# EAGLE library part ATMEGA328SMD (library 1dah)
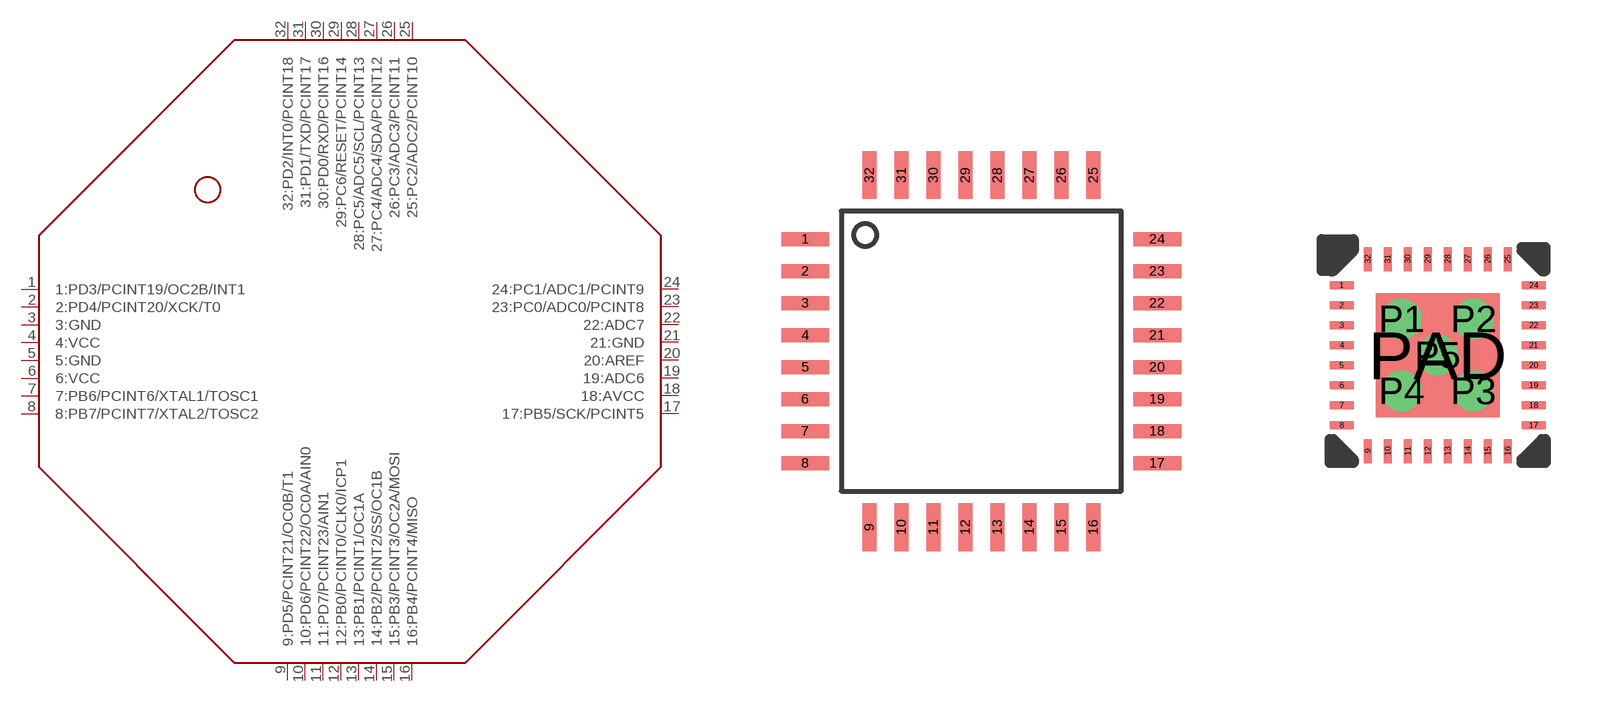
[diagram p20: symbol with the pads of TQFP32; footprints TQFP32, QFN-32]

Designator prefix -

## ATMEGA328SMD-TQFP  [TQFP32]
1  1:PD3/PCINT19/OC2B/INT1
2  2:PD4/PCINT20/XCK/T0
3  3:GND
4  4:VCC
5  5:GND
6  6:VCC
7  7:PB6/PCINT6/XTAL1/TOSC1
8  8:PB7/PCINT7/XTAL2/TOSC2
9  9:PD5/PCINT21/OC0B/T1
10  10:PD6/PCINT22/OC0A/AIN0
11  11:PD7/PCINT23/AIN1
12  12:PB0/PCINT0/CLK0/ICP1
13  13:PB1/PCINT1/OC1A
14  14:PB2/PCINT2/SS/OC1B
15  15:PB3/PCINT3/OC2A/MOSI
16  16:PB4/PCINT4/MISO
17  17:PB5/SCK/PCINT5
18  18:AVCC
19  19:ADC6
20  20:AREF
21  21:GND
22  22:ADC7
23  23:PC0/ADC0/PCINT8
24  24:PC1/ADC1/PCINT9
25  25:PC2/ADC2/PCINT10
26  26:PC3/ADC3/PCINT11
27  27:PC4/ADC4/SDA/PCINT12
28  28:PC5/ADC5/SCL/PCINT13
29  29:PC6/RESET/PCINT14
30  30:PD0/RXD/PCINT16
31  31:PD1/TXD/PCINT17
32  32:PD2/INT0/PCINT18

## ATMEGA328SMD-QFN  [QFN-32]
1  1:PD3/PCINT19/OC2B/INT1
2  2:PD4/PCINT20/XCK/T0
3  3:GND
4  4:VCC
5  5:GND
6  6:VCC
7  7:PB6/PCINT6/XTAL1/TOSC1
8  8:PB7/PCINT7/XTAL2/TOSC2
9  9:PD5/PCINT21/OC0B/T1
10  10:PD6/PCINT22/OC0A/AIN0
11  11:PD7/PCINT23/AIN1
12  12:PB0/PCINT0/CLK0/ICP1
13  13:PB1/PCINT1/OC1A
14  14:PB2/PCINT2/SS/OC1B
15  15:PB3/PCINT3/OC2A/MOSI
16  16:PB4/PCINT4/MISO
17  17:PB5/SCK/PCINT5
18  18:AVCC
19  19:ADC6
20  20:AREF
21  21:GND
22  22:ADC7
23  23:PC0/ADC0/PCINT8
24  24:PC1/ADC1/PCINT9
25  25:PC2/ADC2/PCINT10
26  26:PC3/ADC3/PCINT11
27  27:PC4/ADC4/SDA/PCINT12
28  28:PC5/ADC5/SCL/PCINT13
29  29:PC6/RESET/PCINT14
30  30:PD0/RXD/PCINT16
31  31:PD1/TXD/PCINT17
32  32:PD2/INT0/PCINT18
P1  3:GND
P2  3:GND
P3  3:GND
P4  3:GND
P5  3:GND
PAD  3:GND

## Footprint TQFP32 (pad centres in mm)
smd 1.2 x 0.35: 1 -4.4,2.8; 2 -4.4,2; 3 -4.4,1.2; 4 -4.4,0.4; 5 -4.4,-0.4; 6 -4.4,-1.2; 7 -4.4,-2; 8 -4.4,-2.8; 17 4.4,-2.8; 18 4.4,-2; 19 4.4,-1.2; 20 4.4,-0.4; 21 4.4,0.4; 22 4.4,1.2; 23 4.4,2; 24 4.4,2.8
smd 0.35 x 1.2: 9 -2.8,-4.4; 10 -2,-4.4; 11 -1.2,-4.4; 12 -0.4,-4.4; 13 0.4,-4.4; 14 1.2,-4.4; 15 2,-4.4; 16 2.8,-4.4; 25 2.8,4.4; 26 2,4.4; 27 1.2,4.4; 28 0.4,4.4; 29 -0.4,4.4; 30 -1.2,4.4; 31 -2,4.4; 32 -2.8,4.4

## Footprint QFN-32 (pad centres in mm)
smd 0.6 x 0.2: 1 -2.4,1.75; 2 -2.4,1.25; 3 -2.4,0.75; 4 -2.4,0.25; 5 -2.4,-0.25; 6 -2.4,-0.75; 7 -2.4,-1.25; 8 -2.4,-1.75; 17 2.4,-1.75; 18 2.4,-1.25; 19 2.4,-0.75; 20 2.4,-0.25; 21 2.4,0.25; 22 2.4,0.75; 23 2.4,1.25; 24 2.4,1.75
smd 0.2 x 0.6: 9 -1.75,-2.4; 10 -1.25,-2.4; 11 -0.75,-2.4; 12 -0.25,-2.4; 13 0.25,-2.4; 14 0.75,-2.4; 15 1.25,-2.4; 16 1.75,-2.4; 25 1.75,2.4; 26 1.25,2.4; 27 0.75,2.4; 28 0.25,2.4; 29 -0.25,2.4; 30 -0.75,2.4; 31 -1.25,2.4; 32 -1.75,2.4
drill 0.5: P1 -0.9,0.9; P2 0.9,0.9; P3 0.9,-0.9; P4 -0.9,-0.9; P5 0,0
smd 3.1 x 3.1: PAD 0,0